# EAGLE library part FPC1020AP (library FPC1020)
FPC1020AP Fingerprint Sensor LGA Package
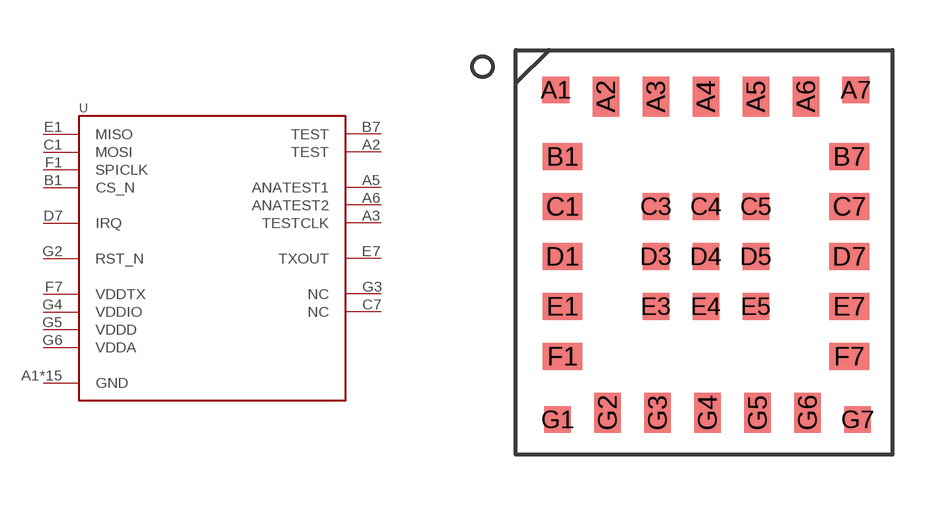
[diagram p1: symbol with the pads of FPC1020AP; footprint FPC1020AP]

Designator prefix -

## FPC1020AP  [FPC1020AP]
A1  GND  pwr
A2  TEST
A3  TESTCLK
A4  GND  pwr
A5  ANATEST1
A6  ANATEST2
A7  GND  pwr
B1  CS_N  in
B7  TEST
C1  MOSI
C3  GND  pwr
C4  GND  pwr
C5  GND  pwr
C7  NC  nc
D1  GND  pwr
D3  GND  pwr
D4  GND  pwr
D5  GND  pwr
D7  IRQ  out
E1  MISO
E3  GND  pwr
E4  GND  pwr
E5  GND  pwr
E7  TXOUT  out
F1  SPICLK  in
F7  VDDTX  pwr
G1  GND  pwr
G2  RST_N  in
G3  NC  nc
G4  VDDIO  pwr
G5  VDDD  pwr
G6  VDDA  pwr
G7  GND  pwr

## Footprint FPC1020AP (pad centres in mm)
FPC1020AP - TOUCH FINGERPRINT SENSOR LGA PACKAGE
smd 0.8 x 0.8: A1 -4.476,4.978; A7 4.524,4.978; C3 -1.476,1.478; C4 0.024,1.478; C5 1.524,1.478; D3 -1.476,-0.022; D4 0.024,-0.022; D5 1.524,-0.022; E3 -1.476,-1.522; E4 0.024,-1.522; E5 1.524,-1.522; G1 -4.426,-4.922; G7 4.574,-4.922
smd 0.8 x 1.2: A2 -2.976,4.778; A3 -1.476,4.778; A4 0.024,4.778; A5 1.524,4.778; A6 3.024,4.778; G2 -2.926,-4.722; G3 -1.426,-4.722; G4 0.074,-4.722; G5 1.574,-4.722; G6 3.074,-4.722
smd 1.2 x 0.8: B1 -4.276,2.978; B7 4.324,2.978; C1 -4.276,1.478; C7 4.324,1.478; D1 -4.276,-0.022; D7 4.324,-0.022; E1 -4.276,-1.522; E7 4.324,-1.522; F1 -4.276,-3.022; F7 4.324,-3.022